# Altium schematic symbol library PIC16F716-I_SO.SchLib: 1 symbol
Pins are listed as number, name and electrical type; pins without a type are passive.

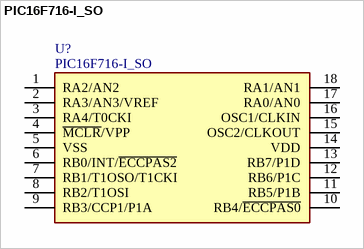
[diagram p0: symbol PIC16F716-I_SO]

## PIC16F716-I_SO
designator U?
Micro 16b, 3.5 KB Flash, PIC16F716-I/SO; Manufacturer_Name: Microchip; Geometry.Height: 2.65mm; Mouser Part Number: 579-PIC16F716-I/SO; Mouser Price/Stock: https://www.mouser.co.uk/ProductDetail/Microchip-Technology/PIC16F716-I-SO?qs=z30FE1aq6wZ1zisuoVAr%2FQ%3D%3D; Manufacturer_Part_Number: PIC16F716-I/SO; Datasheet Link: https://datasheet.datasheetarchive.com/originals/distributors/SFDatasheet-4/sf-00090162.pdf
footprint SOIC127P1030X265-18N
pins: 1 RA2/AN2, 2 RA3/AN3/VREF, 3 RA4/T0CKI, 4 ~{MCLR}/VPP, 5 VSS, 6 RB0/INT/~{ECCPAS2}, 7 RB1/T1OSO/T1CKI, 8 RB2/T1OSI, 9 RB3/CCP1/P1A, 10 RB4/~{ECCPAS0}, 11 RB5/P1B, 12 RB6/P1C, 13 RB7/P1D, 14 VDD, 15 OSC2/CLKOUT, 16 OSC1/CLKIN, 17 RA0/AN0, 18 RA1/AN1